# Altium schematic symbol library MICROPROCESSADORES.SchLib: 1 symbol
Pins are listed as number, name and electrical type; pins without a type are passive.

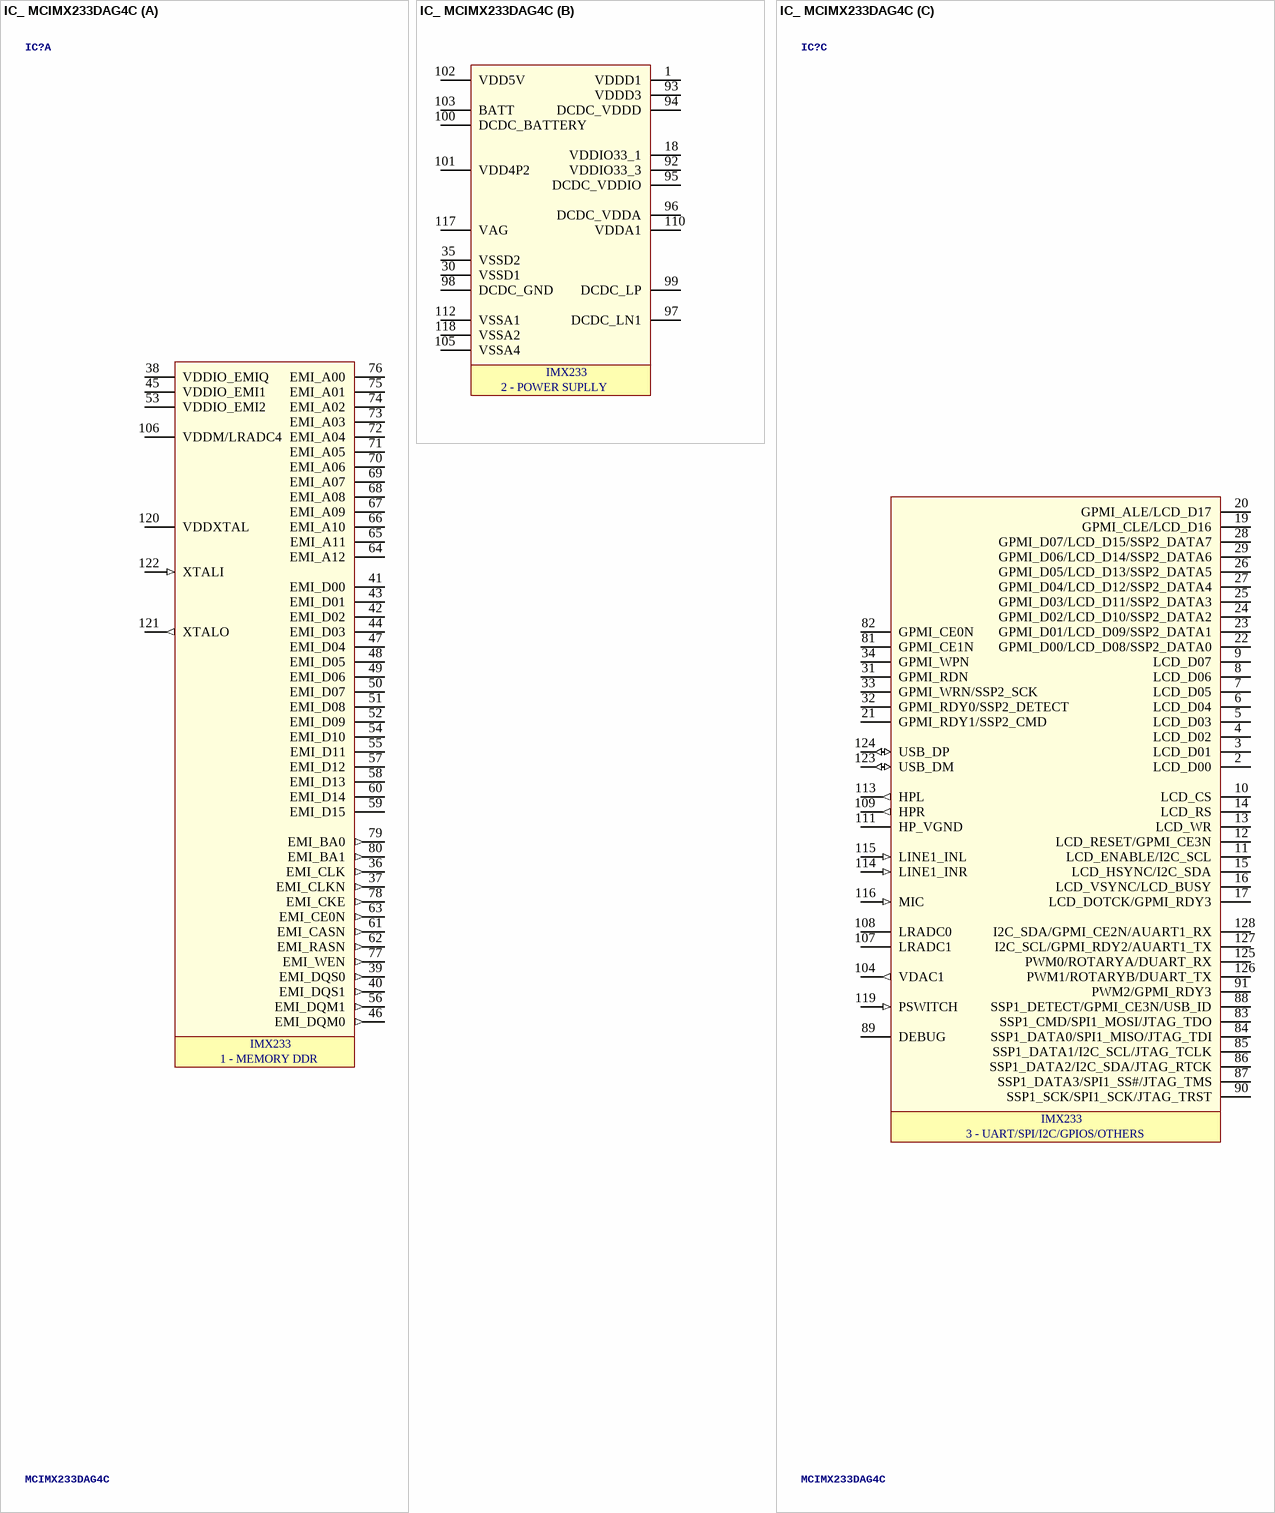
[diagram p0: symbol IC_ MCIMX233DAG4C]

## IC_ MCIMX233DAG4C
designator IC?, comment MCIMX233DAG4C
IC MPU I.MX23 454MHZ 128LQFP; Manufacturer: NXP Freescale; Fabricante: NXP USA; Value: MCIMX233DAG4B; DeviceName: _LD; Description: ARM926EJ-S Microprocessor IC i.MX23 1 Core, 32-Bit 454MHz; Max I/O Voltage: 3.3V; Interface: I2C,SPI,USB; Min Supply Voltage: 1.62V; Max Supply Voltage: 2.1V; RAM Size: 32KB; Core Architecture: ARM; Number of Cores: 1; Data Bus Width: 32b; Memory Type: SRAM,ROM,L1 Cache; Footprint: 128-LQFP; ComponentLink1Description: LOJA; ComponentLink1URL: https://www.digikey.com/product-detail/en/nxp-usa-inc/MCIMX233DAG4C/MCIMX233DAG4C-ND/2660586; ComponentLink2Description: DATASHEET; ComponentLink2URL: https://www.nxp.com/docs/en/reference-manual/IMX23RM.pdf; MPN: MCIMX233DAG4C; Supplier 1: Digi-Key; Supplier Part Number 1: MCIMX233DAG4C-ND; Manufacturer Part Number: MCIMX233DAG4C; Stock 1: 828; Pricing 1: 1=10,72000, 10=9,85500, 25=9,44600, 100=8,32280, 250=7,91432, 500=7,40370, 1000=6,79098, 2500=6,53568, 5000=6,33144 (USD); RoHS: Yes; Mount: Surface Mount; Case/Package: LQFP; Number of Pins: 128; Weight: 0.018865oz; Min Operating Temperature: -10°C; Max Operating Temperature: 70°C; Packaging: Tray; Package Quantity: 90; Max Frequency: 454MHz; Frequency: 454MHz; Radiation Hardening: No; REACH SVHC: No SVHC; ComponentLink3URL: https://datasheet.ciiva.com/22636/606802-22636100.pdf?src-supplier=Element14; ComponentLink3Description: https://datasheet.ciiva.com/22636/606802-22636100.pdf?src-supplier=Element14; ComponentLink4URL: https://datasheet.ciiva.com/4858/imx23ec-4858150.pdf?src-supplier=Mouser; ComponentLink4Description: https://datasheet.ciiva.com/4858/imx23ec-4858150.pdf?src-supplier=Mouser; ComponentLink5URL: https://datasheet.ciiva.com/3249/imx23ec-3249480.pdf?src-supplier=Avnet; ComponentLink5Description: https://datasheet.ciiva.com/3249/imx23ec-3249480.pdf?src-supplier=Avnet; ComponentLink6URL: https://datasheet.ciiva.com/1614/imx23ec-1614731.pdf?src-supplier=Digi-Key; ComponentLink6Description: https://datasheet.ciiva.com/1614/imx23ec-1614731.pdf?src-supplier=Digi-Key; ComponentLink7URL: https://datasheet.ciiva.com/16454/imx23ec-16454645.pdf?src-supplier=Future+Electronics; ComponentLink7Description: https://datasheet.ciiva.com/16454/imx23ec-16454645.pdf?src-supplier=Future+Electronics
footprint 128-LQFP (128-LQFP (14x14))
part A pins: 36 EMI_CLK (out), 37 EMI_CLKN (out), 38 VDDIO_EMIQ (power), 39 EMI_DQS0 (out), 40 EMI_DQS1 (out), 41 EMI_D00, 42 EMI_D02, 43 EMI_D01, 44 EMI_D03, 45 VDDIO_EMI1 (power), 46 EMI_DQM0 (out), 47 EMI_D04, 48 EMI_D05, 49 EMI_D06, 50 EMI_D07, 51 EMI_D08, 52 EMI_D09, 53 VDDIO_EMI2 (power), 54 EMI_D10, 55 EMI_D11, 56 EMI_DQM1 (out), 57 EMI_D12, 58 EMI_D13, 59 EMI_D15, 60 EMI_D14, 61 EMI_CASN (out), 62 EMI_RASN (out), 63 EMI_CE0N (out), 64 EMI_A12, 65 EMI_A11, 66 EMI_A10, 67 EMI_A09, 68 EMI_A08, 69 EMI_A07, 70 EMI_A06, 71 EMI_A05, 72 EMI_A04, 73 EMI_A03, 74 EMI_A02, 75 EMI_A01, 76 EMI_A00, 77 EMI_WEN (out), 78 EMI_CKE (out), 79 EMI_BA0 (out), 80 EMI_BA1 (out), 106 VDDM/LRADC4 (power), 120 VDDXTAL, 121 XTALO (out), 122 XTALI (in)
part B pins: 1 VDDD1 (power), 18 VDDIO33_1 (power), 30 VSSD1 (power), 35 VSSD2 (power), 92 VDDIO33_3 (power), 93 VDDD3 (power), 94 DCDC_VDDD (power), 95 DCDC_VDDIO (power), 96 DCDC_VDDA (power), 97 DCDC_LN1, 98 DCDC_GND (power), 99 DCDC_LP, 100 DCDC_BATTERY (power), 101 VDD4P2 (power), 102 VDD5V (power), 103 BATT (oe), 105 VSSA4 (power), 110 VDDA1 (power), 112 VSSA1 (power), 117 VAG, 118 VSSA2 (power)
part C pins: 2 LCD_D00, 3 LCD_D01, 4 LCD_D02, 5 LCD_D03, 6 LCD_D04, 7 LCD_D05, 8 LCD_D06, 9 LCD_D07, 10 LCD_CS, 11 LCD_ENABLE/I2C_SCL, 12 LCD_RESET/GPMI_CE3N, 13 LCD_WR, 14 LCD_RS, 15 LCD_HSYNC/I2C_SDA, 16 LCD_VSYNC/LCD_BUSY, 17 LCD_DOTCK/GPMI_RDY3, 19 GPMI_CLE/LCD_D16, 20 GPMI_ALE/LCD_D17, 21 GPMI_RDY1/SSP2_CMD, 22 GPMI_D00/LCD_D08/SSP2_DATA0, 23 GPMI_D01/LCD_D09/SSP2_DATA1, 24 GPMI_D02/LCD_D10/SSP2_DATA2, 25 GPMI_D03/LCD_D11/SSP2_DATA3, 26 GPMI_D05/LCD_D13/SSP2_DATA5, 27 GPMI_D04/LCD_D12/SSP2_DATA4, 28 GPMI_D07/LCD_D15/SSP2_DATA7, 29 GPMI_D06/LCD_D14/SSP2_DATA6, 31 GPMI_RDN, 32 GPMI_RDY0/SSP2_DETECT, 33 GPMI_WRN/SSP2_SCK, 34 GPMI_WPN, 81 GPMI_CE1N, 82 GPMI_CE0N, 83 SSP1_CMD/SPI1_MOSI/JTAG_TDO, 84 SSP1_DATA0/SPI1_MISO/JTAG_TDI, 85 SSP1_DATA1/I2C_SCL/JTAG_TCLK, 86 SSP1_DATA2/I2C_SDA/JTAG_RTCK, 87 SSP1_DATA3/SPI1_SS#/JTAG_TMS, 88 SSP1_DETECT/GPMI_CE3N/USB_ID, 89 DEBUG, 90 SSP1_SCK/SPI1_SCK/JTAG_TRST, 91 PWM2/GPMI_RDY3, 104 VDAC1 (out), 107 LRADC1, 108 LRADC0, 109 HPR (out), 111 HP_VGND (power), 113 HPL (out), 114 LINE1_INR (in), 115 LINE1_INL (in), 116 MIC (in), 119 PSWITCH (in), 123 USB_DM (io), 124 USB_DP (io), 125 PWM0/ROTARYA/DUART_RX, 126 PWM1/ROTARYB/DUART_TX, 127 I2C_SCL/GPMI_RDY2/AUART1_TX, 128 I2C_SDA/GPMI_CE2N/AUART1_RX
part A text: IMX233; 1 - MEMORY DDR
part B text: IMX233; 2 - POWER SUPLLY
part C text: IMX233; 3 - UART/SPI/I2C/GPIOS/OTHERS